# Altium footprint library SamacSys_Parts.PCBLIB: 20 footprints (part 1 of 2)
Each footprint in its own frame and in the unit in brackets; x right, y up, seen from the top. Pads: shape width x height; smd on the part's side, far side on the other; paste and mask are expansions set on the pad; w line width, h text height; cw(c..) or ccw(c..) is an arc to the next point about the centre after c.
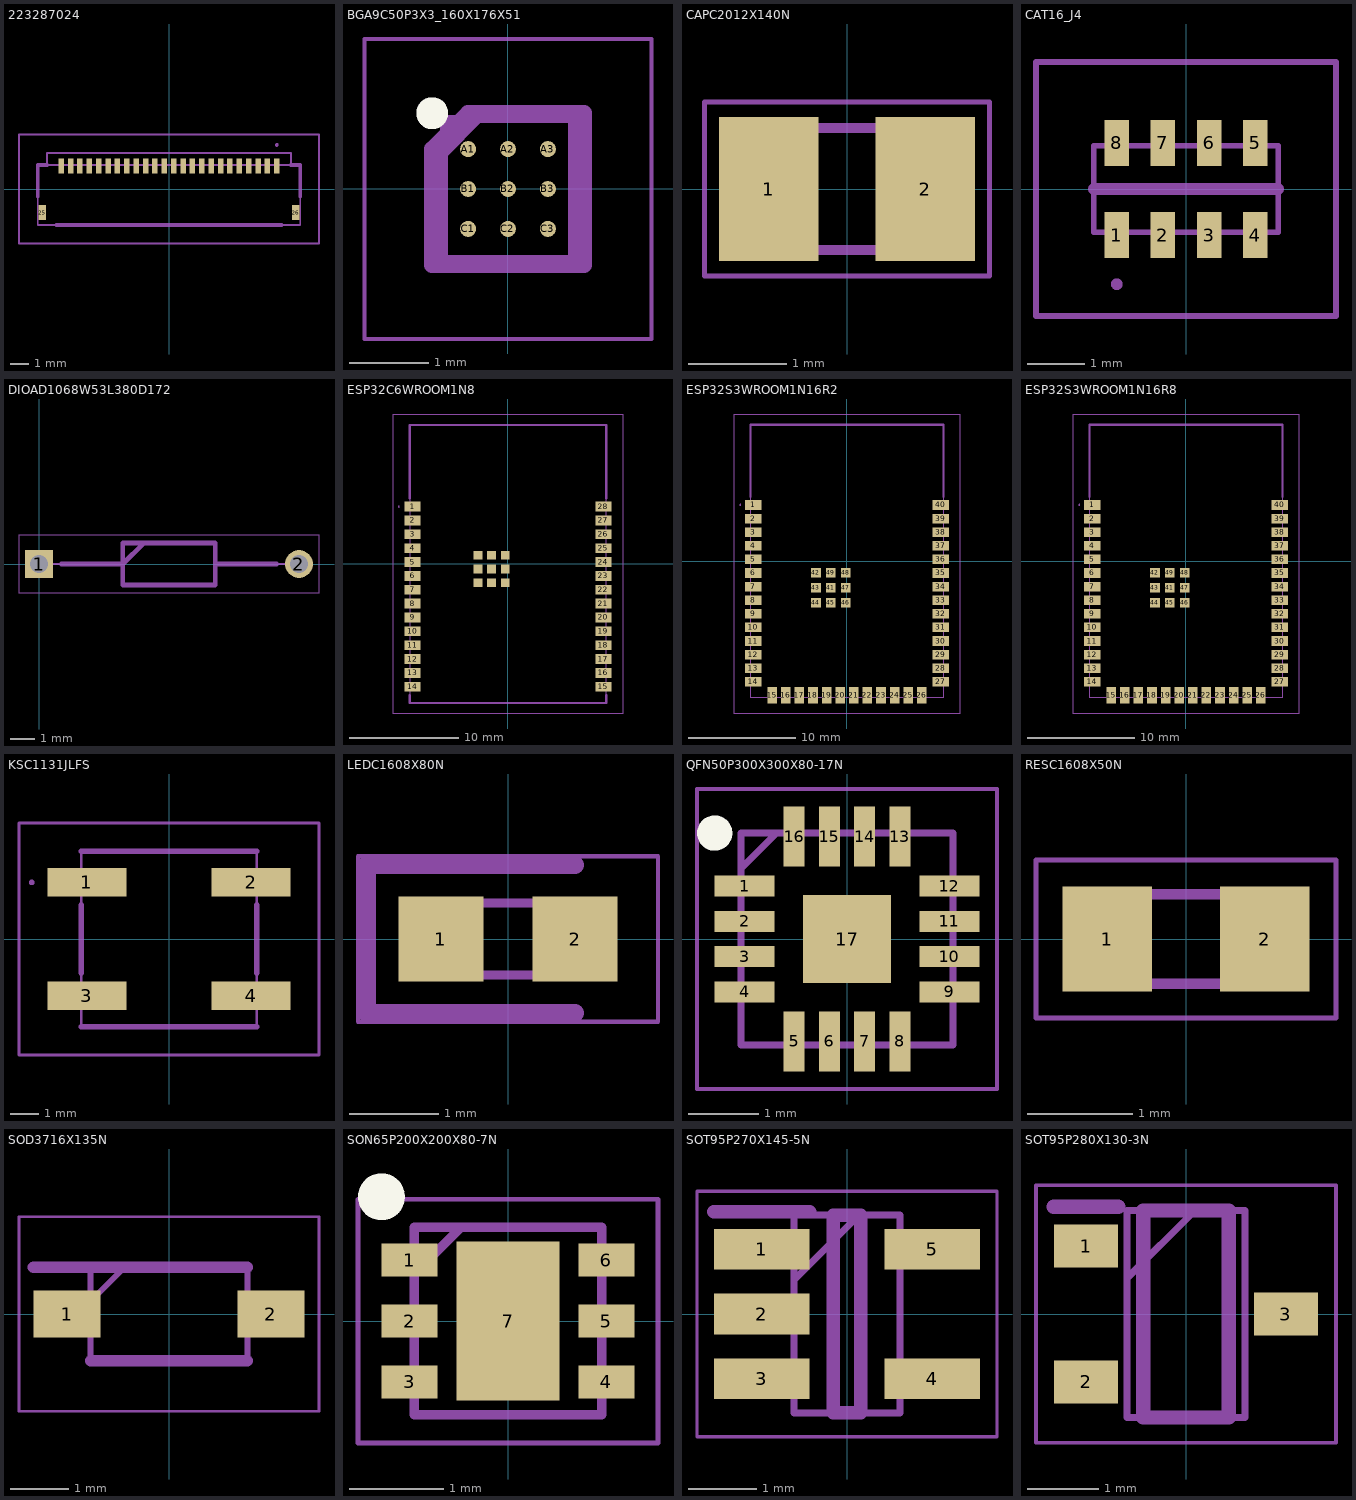
[diagram p0: the footprints below, top view; thin cyan lines are the x and y axes]

## 223287024 [mil]
pads (26):
  rect 11.81x31.5 smd: 1(226.38,48.62) 2(206.69,48.62) 3(187.01,48.62) 4(167.32,48.62) 5(147.64,48.62) 6(127.95,48.62) 7(108.27,48.62) 8(88.58,48.62) 9(68.9,48.62) 10(49.21,48.62) 11(29.53,48.62) 12(9.84,48.62) 13(-9.84,48.62) 14(-29.53,48.62) 15(-49.21,48.62) 16(-68.9,48.62) 17(-88.58,48.62) 18(-108.27,48.62) 19(-127.95,48.62) 20(-147.64,48.62) 21(-167.32,48.62) 22(-187.01,48.62) 23(-206.69,48.62) 24(-226.38,48.62)
  rect 15.75x31.5 smd: 25(-265.75,-49.8) 26(265.75,-49.8)
tDocu:
  lines w3.94: -255.91,50.59 -255.91,75.39 255.91,75.39 255.91,50.59 ; -314.96,-114.76 314.96,-114.76 314.96,114.76 -314.96,114.76 -314.96,-114.76 ; -275.59,-75.39 275.59,-75.39 275.59,50.59 -275.59,50.59 -275.59,-75.39
tPlace:
  lines w3.94: 226.38,90.55 cw(c226.38,92.52) 226.38,94.49 ; 226.38,90.55 226.38,90.55 ; 226.38,90.55 ccw(c226.38,92.52) 226.38,94.49 ; 226.38,94.49 226.38,94.49
  lines w7.87: -275.59,-16.34 -275.59,50.59 -255.91,50.59 ; -236.22,-75.39 236.22,-75.39 ; 255.91,50.59 275.59,50.59 275.59,-16.34

## BGA9C50P3X3_160X176X51 [mm]
pads (9):
  rrect100% 0.2x0.2 smd: A1(-0.5,0.5) A2(0,0.5) A3(0.5,0.5) B1(-0.5,0) B2(0,0) B3(0.5,0) C1(-0.5,-0.5) C2(0,-0.5) C3(0.5,-0.5)
Top Overlay:
  circle w0.2: c-0.95,0.95 r0.1
tDocu:
  lines w0.05: -1.8,-1.88 1.8,-1.88 1.8,1.88 -1.8,1.88 -1.8,-1.88
  lines w0.1: -0.8,0.44 -0.36,0.88 ; -0.8,-0.88 0.8,-0.88 0.8,0.88 -0.8,0.88 -0.8,-0.88
tPlace:
  lines w0.2: -0.95,-0.95 0.95,-0.95 0.95,0.95 -0.5,0.95 -0.95,0.5 -0.95,-0.95

## CAPC2012X140N [mil]
pads (2):
  rect 40.16x57.87 smd: 1(-31.5,0) 2(31.5,0)
tDocu:
  lines w1.97: -57.48,-35.04 57.48,-35.04 57.48,35.04 -57.48,35.04 -57.48,-35.04
  lines w3.94: -39.37,-24.61 39.37,-24.61 39.37,24.61 -39.37,24.61 -39.37,-24.61

## CAT16_J4 [mil]
pads (8):
  rect 16.73x31.5 smd: 1(-47.24,-31.5) 2(-15.75,-31.5) 3(15.75,-31.5) 4(47.24,-31.5) 5(47.24,31.5) 6(15.75,31.5) 7(-15.75,31.5) 8(-47.24,31.5)
tDocu:
  lines w3.94: -102.36,-86.61 102.36,-86.61 102.36,86.61 -102.36,86.61 -102.36,-86.61 ; -62.99,-29.53 62.99,-29.53 62.99,29.53 -62.99,29.53 -62.99,-29.53
tPlace:
  lines w3.94: -47.24,-66.93 cw(c-47.24,-64.96) -47.24,-62.99 ; -47.24,-66.93 -47.24,-66.93 ; -47.24,-66.93 ccw(c-47.24,-64.96) -47.24,-62.99 ; -47.24,-62.99 -47.24,-62.99
  lines w7.87: -62.99,0 62.99,0

## DIOAD1068W53L380D172 [mm]
pads (2):
  rect 1.15x1.15 / inner round 1.063 / far side rect 1.15x1.15 hole 0.75: 1(0,0)
  round 1.15 hole 0.75: 2(10.7,0)
tDocu:
  lines w0.05: -0.825,-1.21 11.525,-1.21 11.525,1.21 -0.825,1.21 -0.825,-1.21
  lines w0.1: 0,0 3.448,0 4.308,0.86 ; 7.252,0 10.7,0 ; 3.448,-0.86 7.253,-0.86 7.253,0.86 3.448,0.86 3.448,-0.86
tPlace:
  lines w0.2: 0.925,0 3.448,0 4.308,0.86 ; 7.252,0 9.775,0 ; 3.448,-0.86 7.252,-0.86 7.252,0.86 3.448,0.86 3.448,-0.86

## ESP32C6WROOM1N8 [mil]
pads (37):
  rect 59.06x35.43 smd: 1(-344.49,207.09) 2(-344.49,157.09) 3(-344.49,107.09) 4(-344.49,57.09) 5(-344.49,7.09) 6(-344.49,-42.91) 7(-344.49,-92.91) 8(-344.49,-142.91) 9(-344.49,-192.91) 10(-344.49,-242.91) 11(-344.49,-292.91) 12(-344.49,-342.91) 13(-344.49,-392.91) 14(-344.49,-442.91) 15(344.49,-442.91) 16(344.49,-392.91) 17(344.49,-342.91) 18(344.49,-292.91) 19(344.49,-242.91) 20(344.49,-192.91) 21(344.49,-142.91) 22(344.49,-92.91) 23(344.49,-42.91) 24(344.49,7.09) 25(344.49,57.09) 26(344.49,107.09) 27(344.49,157.09) 28(344.49,207.09)
  rect 31.5x31.5 smd: 29(-59.25,-18.11) 30(-108.46,31.1) 31(-108.46,-18.11) 32(-108.46,-67.32) 33(-59.25,-67.32) 34(-10.04,-67.32) 35(-10.04,-18.11) 36(-10.04,31.1) 37(-59.25,31.1)
tDocu:
  lines w3.94: -413.39,-541.34 413.39,-541.34 413.39,541.34 -413.39,541.34 -413.39,-541.34 ; -354.33,-501.97 354.33,-501.97 354.33,501.97 -354.33,501.97 -354.33,-501.97
tPlace:
  lines w3.94: -395.67,207.09 -395.67,207.09 ; -395.67,207.09 ccw(c-393.7,207.09) -391.73,207.09 ; -395.67,207.09 cw(c-393.7,207.09) -391.73,207.09 ; -391.73,207.09 -391.73,207.09
  lines w7.87: -354.33,-472.44 -354.33,-501.97 354.33,-501.97 354.33,-472.44 ; -354.33,236.22 -354.33,501.97 354.33,501.97 354.33,236.22

## ESP32S3WROOM1N16R2 [mm]
pads (49):
  rect 1.5x0.9 smd: 1(-8.75,5.26) 2(-8.75,3.99) 3(-8.75,2.72) 4(-8.75,1.45) 5(-8.75,0.18) 6(-8.75,-1.09) 7(-8.75,-2.36) 8(-8.75,-3.63) 9(-8.75,-4.9) 10(-8.75,-6.17) 11(-8.75,-7.44) 12(-8.75,-8.71) 13(-8.75,-9.98) 14(-8.75,-11.25) 27(8.75,-11.25) 28(8.75,-9.98) 29(8.75,-8.71) 30(8.75,-7.44) 31(8.75,-6.17) 32(8.75,-4.9) 33(8.75,-3.63) 34(8.75,-2.36) 35(8.75,-1.09) 36(8.75,0.18) 37(8.75,1.45) 38(8.75,2.72) 39(8.75,3.99) 40(8.75,5.26)
  rect 0.9x1.5 smd: 15(-6.985,-12.5) 16(-5.715,-12.5) 17(-4.445,-12.5) 18(-3.175,-12.5) 19(-1.905,-12.5) 20(-0.635,-12.5) 21(0.635,-12.5) 22(1.905,-12.5) 23(3.175,-12.5) 24(4.445,-12.5) 25(5.715,-12.5) 26(6.985,-12.5)
  rect 0.9x0.9 smd: 41(-1.5,-2.46) 42(-2.9,-1.06) 43(-2.9,-2.46) 44(-2.9,-3.86) 45(-1.5,-3.86) 46(-0.1,-3.86) 47(-0.1,-2.46) 48(-0.1,-1.06) 49(-1.5,-1.06)
tDocu:
  lines w0.1: -10.5,-14.25 10.5,-14.25 10.5,13.75 -10.5,13.75 -10.5,-14.25 ; -9,-12.75 9,-12.75 9,12.75 -9,12.75 -9,-12.75
tPlace:
  lines w0.1: -10,5.26 cw(c-9.95,5.26) -9.9,5.26 ; -10,5.26 -10,5.26 ; -10,5.26 ccw(c-9.95,5.26) -9.9,5.26 ; -9.9,5.26 -9.9,5.26
  lines w0.2: -9,6 -9,12.75 9,12.75 9,6

## ESP32S3WROOM1N16R8 [mm]
pads (49):
  rect 1.5x0.9 smd: 1(-8.75,5.26) 2(-8.75,3.99) 3(-8.75,2.72) 4(-8.75,1.45) 5(-8.75,0.18) 6(-8.75,-1.09) 7(-8.75,-2.36) 8(-8.75,-3.63) 9(-8.75,-4.9) 10(-8.75,-6.17) 11(-8.75,-7.44) 12(-8.75,-8.71) 13(-8.75,-9.98) 14(-8.75,-11.25) 27(8.75,-11.25) 28(8.75,-9.98) 29(8.75,-8.71) 30(8.75,-7.44) 31(8.75,-6.17) 32(8.75,-4.9) 33(8.75,-3.63) 34(8.75,-2.36) 35(8.75,-1.09) 36(8.75,0.18) 37(8.75,1.45) 38(8.75,2.72) 39(8.75,3.99) 40(8.75,5.26)
  rect 0.9x1.5 smd: 15(-6.985,-12.5) 16(-5.715,-12.5) 17(-4.445,-12.5) 18(-3.175,-12.5) 19(-1.905,-12.5) 20(-0.635,-12.5) 21(0.635,-12.5) 22(1.905,-12.5) 23(3.175,-12.5) 24(4.445,-12.5) 25(5.715,-12.5) 26(6.985,-12.5)
  rect 0.9x0.9 smd: 41(-1.5,-2.46) 42(-2.9,-1.06) 43(-2.9,-2.46) 44(-2.9,-3.86) 45(-1.5,-3.86) 46(-0.1,-3.86) 47(-0.1,-2.46) 48(-0.1,-1.06) 49(-1.5,-1.06)
tDocu:
  lines w0.1: -10.5,-14.25 10.5,-14.25 10.5,13.75 -10.5,13.75 -10.5,-14.25 ; -9,-12.75 9,-12.75 9,12.75 -9,12.75 -9,-12.75
tPlace:
  lines w0.1: -10,5.26 cw(c-9.95,5.26) -9.9,5.26 ; -10,5.26 -10,5.26 ; -10,5.26 ccw(c-9.95,5.26) -9.9,5.26 ; -9.9,5.26 -9.9,5.26
  lines w0.2: -9,6 -9,12.75 9,12.75 9,6

## KSC1131JLFS [mm]
pads (4):
  rect 2.8x1 smd: 1(-2.9,2) 2(2.9,2) 3(-2.9,-2) 4(2.9,-2)
tDocu:
  lines w0.1: -5.3,-4.1 5.3,-4.1 5.3,4.1 -5.3,4.1 -5.3,-4.1 ; -3.1,-3.1 3.1,-3.1 3.1,3.1 -3.1,3.1 -3.1,-3.1
tPlace:
  lines w0.1: -4.9,2 -4.9,2 ; -4.9,2 ccw(c-4.85,2) -4.8,2 ; -4.9,2 cw(c-4.85,2) -4.8,2 ; -4.8,2 -4.8,2
  lines w0.2: -3.1,-3.1 3.1,-3.1 ; -3.1,-1.2 -3.1,1.2 ; -3.1,3.1 3.1,3.1 ; 3.1,-1.2 3.1,1.2

## LEDC1608X80N [mm]
pads (2):
  rect 0.95x0.95 smd: 1(-0.75,0) 2(0.75,0)
tDocu:
  lines w0.05: -1.675,-0.925 1.675,-0.925 1.675,0.925 -1.675,0.925 -1.675,-0.925
  lines w0.1: -0.8,0.133 -0.533,0.4 ; -0.8,-0.4 0.8,-0.4 0.8,0.4 -0.8,0.4 -0.8,-0.4
tPlace:
  lines w0.2: 0.75,-0.825 -1.575,-0.825 -1.575,0.825 0.75,0.825

## QFN50P300X300X80-17N [mm]
pads (17):
  rect 0.85x0.3 smd: 1(-1.45,0.75) 2(-1.45,0.25) 3(-1.45,-0.25) 4(-1.45,-0.75) 9(1.45,-0.75) 10(1.45,-0.25) 11(1.45,0.25) 12(1.45,0.75)
  rect 0.3x0.85 smd: 5(-0.75,-1.45) 6(-0.25,-1.45) 7(0.25,-1.45) 8(0.75,-1.45) 13(0.75,1.45) 14(0.25,1.45) 15(-0.25,1.45) 16(-0.75,1.45)
  rect 1.25x1.25 smd: 17(0,0)
Top Overlay:
  circle w0.25: c-1.875,1.5 r0.125
tDocu:
  lines w0.05: -2.125,-2.125 2.125,-2.125 2.125,2.125 -2.125,2.125 -2.125,-2.125
  lines w0.1: -1.5,1 -1,1.5 ; -1.5,-1.5 1.5,-1.5 1.5,1.5 -1.5,1.5 -1.5,-1.5

## RESC1608X50N [mm]
pads (2):
  rect 0.85x1 smd: 1(-0.75,0) 2(0.75,0)
tDocu:
  lines w0.05: -1.425,-0.75 1.425,-0.75 1.425,0.75 -1.425,0.75 -1.425,-0.75
  lines w0.1: -0.788,-0.425 0.788,-0.425 0.788,0.425 -0.788,0.425 -0.788,-0.425

## SOD3716X135N [mil]
pads (2):
  rect 45.28x31.5 smd: 1(-68.9,0) 2(68.9,0)
tDocu:
  lines w1.97: -101.38,-65.75 101.38,-65.75 101.38,65.75 -101.38,65.75 -101.38,-65.75
  lines w3.94: -52.95,8.86 -30.32,31.5 ; -52.95,-31.5 52.95,-31.5 52.95,31.5 -52.95,31.5 -52.95,-31.5
tPlace:
  lines w7.87: -91.54,31.5 52.95,31.5 ; -52.95,-31.5 52.95,-31.5

## SON65P200X200X80-7N [mm]
pads (7):
  rect 0.6x0.35 smd: 1(-1.05,0.65) 2(-1.05,0) 3(-1.05,-0.65) 4(1.05,-0.65) 5(1.05,0) 6(1.05,0.65)
  rect 1.1x1.7 smd: 7(0,0)
Top Overlay:
  circle w0.25: c-1.35,1.325 r0.125
tDocu:
  lines w0.05: -1.6,-1.3 1.6,-1.3 1.6,1.3 -1.6,1.3 -1.6,-1.3
  lines w0.1: -1,0.5 -0.5,1 ; -1,-1 1,-1 1,1 -1,1 -1,-1

## SOT95P270X145-5N [mm]
pads (5):
  rect 1.4x0.6 smd: 1(-1.25,0.95) 2(-1.25,0) 3(-1.25,-0.95) 4(1.25,-0.95) 5(1.25,0.95)
tDocu:
  lines w0.05: -2.2,-1.8 2.2,-1.8 2.2,1.8 -2.2,1.8 -2.2,-1.8
  lines w0.1: -0.775,0.5 0.175,1.45 ; -0.775,-1.45 0.775,-1.45 0.775,1.45 -0.775,1.45 -0.775,-1.45
tPlace:
  lines w0.2: -1.95,1.5 -0.55,1.5 ; -0.2,-1.45 0.2,-1.45 0.2,1.45 -0.2,1.45 -0.2,-1.45

## SOT95P280X130-3N [mm]
pads (3):
  rect 0.9x0.6 smd: 1(-1.4,0.95) 2(-1.4,-0.95) 3(1.4,0)
tDocu:
  lines w0.05: -2.1,-1.8 2.1,-1.8 2.1,1.8 -2.1,1.8 -2.1,-1.8
  lines w0.1: -0.825,0.5 0.125,1.45 ; -0.825,-1.45 0.825,-1.45 0.825,1.45 -0.825,1.45 -0.825,-1.45
tPlace:
  lines w0.2: -1.85,1.5 -0.95,1.5 ; -0.6,-1.45 0.6,-1.45 0.6,1.45 -0.6,1.45 -0.6,-1.45